# Altium footprint library SMD Voltage Reference and Regulators.PcbLib: 15 footprints
Each footprint in its own frame and in the unit in brackets; x right, y up, seen from the top. Pads: shape width x height; smd on the part's side, far side on the other; paste and mask are expansions set on the pad; w line width, h text height; cw(c..) or ccw(c..) is an arc to the next point about the centre after c.
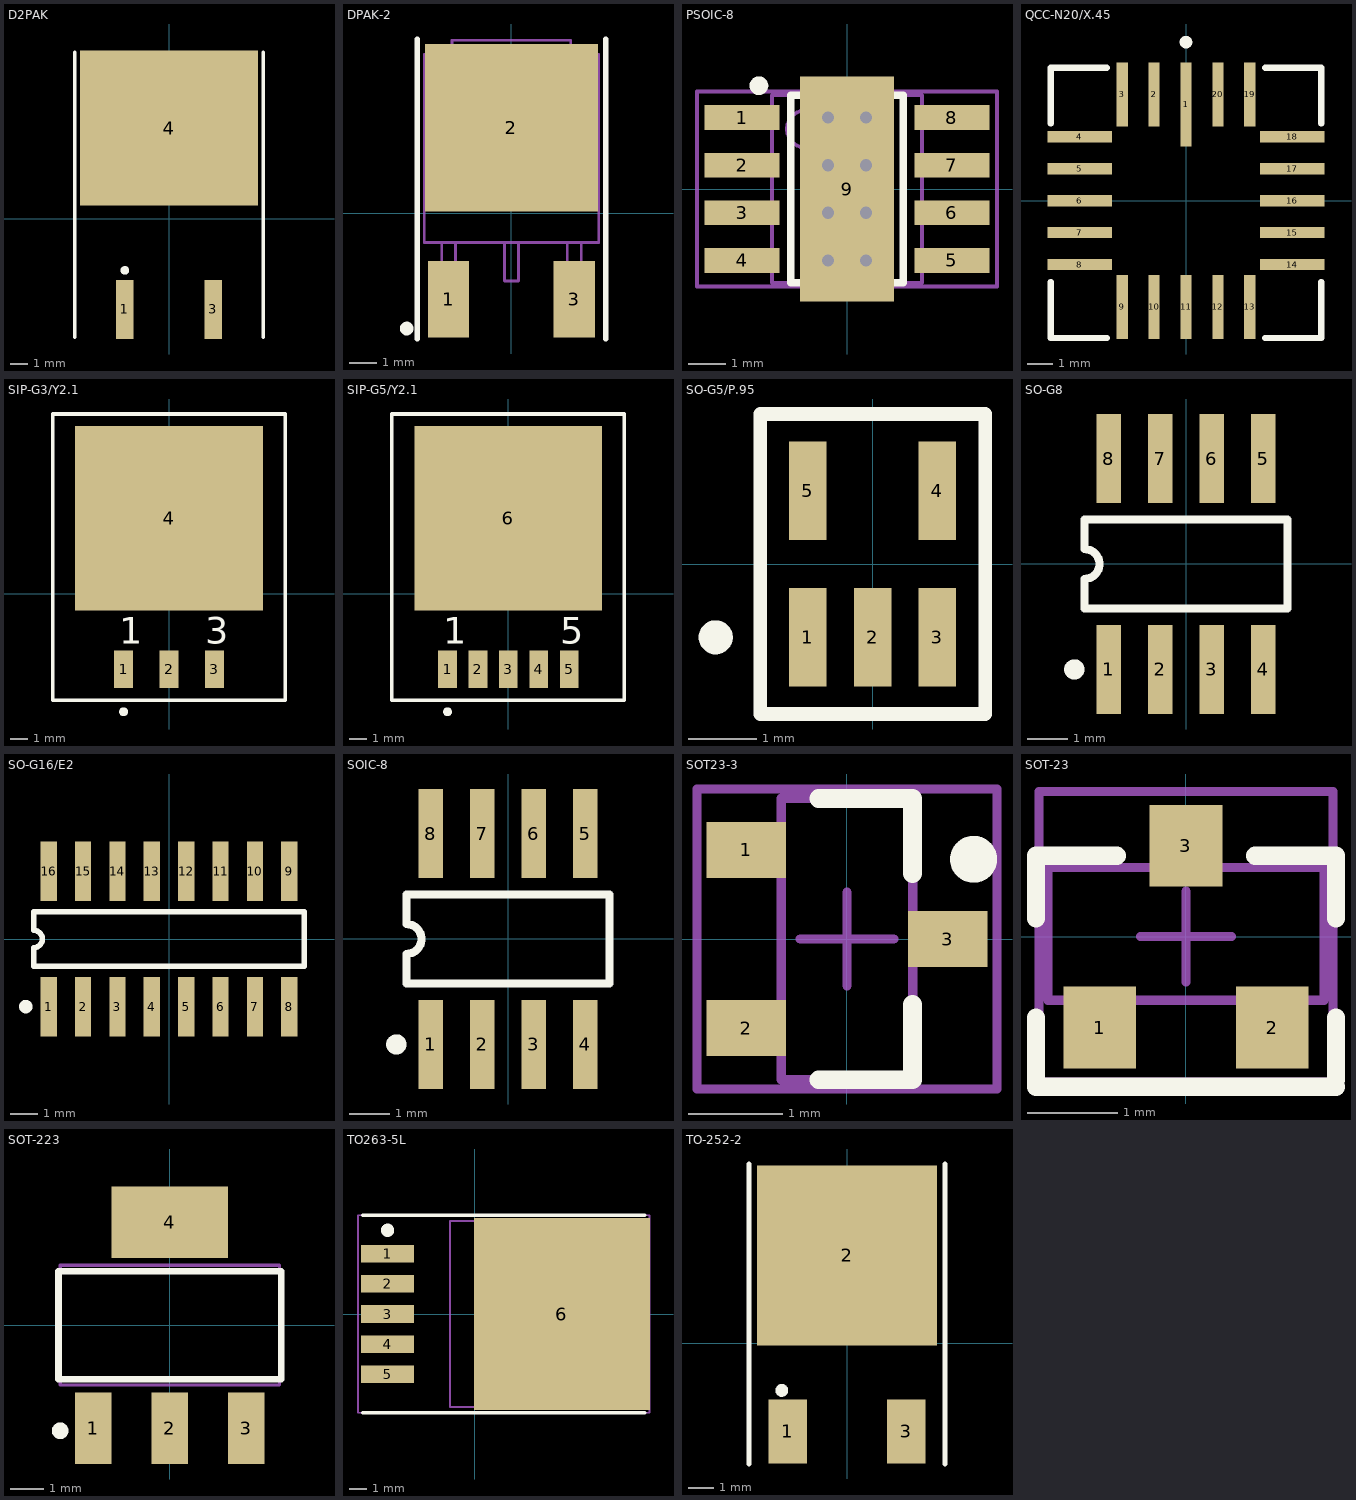
[diagram p0: the footprints below, top view; thin cyan lines are the x and y axes]

## D2PAK [mm] "D2-PAK/TO-263-AB; 3 Leads (1 Cropped); Body 15.9 (inc. leads) x 10.4 mm (LxW max)"
height 4.6
pads (3):
  rect 1x3.4 smd: 1(-2.54,-5.225) 3(2.54,-5.225)
  rect 10.25x8.9 smd: 4(0,5.225)
Top Overlay:
  circle w0.25: c-2.54,-2.975 r0.125
  lines w0.2: -5.425,-6.825 -5.425,9.575 ; 5.425,-6.825 5.425,9.575
3D body: height 0.92, standoff -1.03, extent -6.858,4.445 -6.858,4.445
3D body "D2PAK.step": height 4.92, standoff -0.09, extent -5.08,-6.368 5.08,8.896

## DPAK-2 [mm] "DPAK 3 Leads (1 Cropped); Body 10.4 (inc. leads) x 6.7 mm (LxW max)"
height 2.38
pads (3):
  rect 1.5x2.8 smd: 1(-2.286,-3.125) 3(2.286,-3.125)
  rect 6.3x6.1 smd: 2(0,3.125)
Top Overlay:
  circle w0.25: c-3.81,-4.191 r0.125
  lines w0.2: -3.429,-4.572 -3.429,6.35 ; 3.429,-4.572 3.429,6.35
Mechanical 13:
  lines w0.1: -2.54,-1.062 -2.54,-3.856 -2.032,-3.856 -2.032,-1.062 ; -2.159,5.796 -2.159,6.304 2.159,6.304 2.159,5.796 ; -0.254,-1.062 -0.254,-2.459 0.254,-2.459 0.254,-1.062 ; 2.032,-1.062 2.032,-3.856 2.54,-3.856 2.54,-1.062 ; -3.175,-1.062 -3.175,5.796 3.175,5.796 3.175,-1.062 -3.175,-1.062
3D body "D-PAK.step": height 2.3, standoff 0, extent -3.246,-3.853 3.247,5.647

## PSOIC-8 [mm] "SOIC, 8-Leads, Body 4.9x3.9mm, Pitch 1.27mm, IPC High Density"
height 1.75
pads (9):
  rect 2x0.66 smd: 1(-2.8,1.905) 2(-2.8,0.635) 3(-2.8,-0.635) 4(-2.8,-1.905) 5(2.8,-1.905) 6(2.8,-0.635) 7(2.8,0.635) 8(2.8,1.905)
  rect 2.5x6 smd: 9(0,0)
via 0.508,-1.905 diameter 0.5 hole 0.33
via 0.508,1.905 diameter 0.5 hole 0.33
via -0.508,1.905 diameter 0.5 hole 0.33
via -0.508,-1.905 diameter 0.5 hole 0.33
via -0.508,-0.635 diameter 0.5 hole 0.33
via -0.508,0.635 diameter 0.5 hole 0.33
via 0.508,0.635 diameter 0.5 hole 0.33
via 0.508,-0.635 diameter 0.5 hole 0.33
Top Overlay:
  circle w0.25: c-2.35,2.755 r0.125
  lines w0.2: -1.5,-2.5 1.5,-2.5 1.5,2.5 -1.5,2.5 -1.5,-2.5
Mechanical 13:
  circle w0.1: c-1.1,1.6 r0.5
  lines w0.1: -2,-2.5 2,-2.5 2,2.5 -2,2.5 -2,-2.5
Mechanical 15:
  lines w0.1: -0.5,0 0.5,0 ; 0,-0.5 0,0.5 ; -4,-2.6 4,-2.6 4,2.6 -4,2.6 -4,-2.6
3D body "SO8 or SOIC8.STEP": height 1.7, standoff 0, extent -3,-2.45 3,2.45

## QCC-N20/X.45 [mm]
pads (20):
  rect 0.45x3.35 smd: 1(0,3.825)
  rect 0.45x2.55 smd: 2(-1.27,4.225) 3(-2.54,4.225) 9(-2.54,-4.225) 10(-1.27,-4.225) 11(0,-4.225) 12(1.27,-4.225) 13(2.54,-4.225) 19(2.54,4.225) 20(1.27,4.225)
  rect 2.55x0.45 smd: 4(-4.225,2.54) 5(-4.225,1.27) 6(-4.225,0) 7(-4.225,-1.27) 8(-4.225,-2.54) 14(4.225,-2.54) 15(4.225,-1.27) 16(4.225,0) 17(4.225,1.27) 18(4.225,2.54)
Top Overlay:
  circle w0.25: c0,6.3 r0.125
  lines w0.25: -5.375,-3.237 -5.375,-5.463 -3.15,-5.463 ; -5.375,3.062 -5.375,5.288 -3.15,5.288 ; 3.15,-5.463 5.375,-5.463 5.375,-3.237 ; 3.15,5.288 5.375,5.288 5.375,3.062
3D body "CLCC-20 National QCC-N20 X.45.STEP": height 2.11, standoff 0, extent -4.545,-4.545 4.545,4.545

## SIP-G3/Y2.1 [mm]
pads (4):
  rect 1.05x2.1 smd: 1(-2.54,-4.225) 2(0,-4.225) 3(2.54,-4.225)
  rect 10.5x10.3 smd: 4(0,4.225)
Top Overlay:
  circle w0.25: c-2.54,-6.6 r0.125
  lines w0.2: -6.5,-5.95 6.5,-5.95 6.5,10.05 -6.5,10.05 -6.5,-5.95
  text "3" at 2.04,-2.8 h1.5
  text "1" at -2.79,-2.8 h1.5
3D body "TS3B.step": height 4.8, standoff -0.05, extent -5.207,-4 5.207,8.131

## SIP-G5/Y2.1 [mm]
pads (6):
  rect 1.05x2.1 smd: 1(-3.4,-4.225) 2(-1.7,-4.225) 3(0,-4.225) 4(1.7,-4.225) 5(3.4,-4.225)
  rect 10.5x10.3 smd: 6(-0.01,4.225)
Top Overlay:
  circle w0.25: c-3.4,-6.6 r0.125
  lines w0.2: -6.52,-5.95 6.48,-5.95 6.48,10.05 -6.52,10.05 -6.52,-5.95
  text "1" at -3.65,-2.8 h1.5
  text "5" at 2.9,-2.8 h1.5
3D body "TS5B.step": height 4.8, standoff -0.05, extent -5.207,-4.508 5.207,7.623

## SO-G5/P.95 [mm]
pads (5):
  rect 0.55x1.45 smd: 1(-0.95,-1.075) 2(0,-1.075) 3(0.95,-1.075) 4(0.95,1.075) 5(-0.95,1.075)
Top Overlay:
  circle w0.25: c-2.3,-1.075 r0.125
  lines w0.2: -1.65,-2.2 1.65,-2.2 1.65,2.2 -1.65,2.2 -1.65,-2.2
3D body "SOT-23-5.STEP": height 1.5, standoff 0, extent -1.45,-1.41 1.45,1.411

## SO-G8 [mm]
pads (8):
  rect 0.6x2.2 smd: 1(-1.905,-2.6) 2(-0.635,-2.6) 3(0.635,-2.6) 4(1.905,-2.6) 5(1.905,2.6) 6(0.635,2.6) 7(-0.635,2.6) 8(-1.905,2.6)
Top Overlay:
  circle w0.25: c-2.755,-2.6 r0.125
  lines w0.2: -2.5,-1.1 -2.5,-0.367 ccw(c-2.5,0) -2.5,0.367 -2.5,1.1 2.5,1.1 2.5,-1.1 -2.5,-1.1
3D body "SO-8.STEP": height 1.5, standoff 0, extent -2.45,-3.014 2.45,3.014
3D body "SO8 or SOIC8.STEP": height 1.7, standoff 0, extent -2.45,-3 2.45,3

## SO-G16/E2 [mm]
pads (16):
  rect 0.6x2.2 smd: 1(-4.445,-2.5) 2(-3.175,-2.5) 3(-1.905,-2.5) 4(-0.635,-2.5) 5(0.635,-2.5) 6(1.905,-2.5) 7(3.175,-2.5) 8(4.445,-2.5) 9(4.445,2.5) 10(3.175,2.5) 11(1.905,2.5) 12(0.635,2.5) 13(-0.635,2.5) 14(-1.905,2.5) 15(-3.175,2.5) 16(-4.445,2.5)
Top Overlay:
  circle w0.25: c-5.295,-2.5 r0.125
  lines w0.2: -5,-1 -5,-0.318 ccw(c-5,0) -5,0.318 -5,1 5,1 5,-1 -5,-1
3D body "SO16.step": height 1.7, standoff 0, extent -5.1,-3 5.1,3

## SOIC-8 [mm]
pads (8):
  rect 0.6x2.2 smd: 1(-1.905,-2.6) 2(-0.635,-2.6) 3(0.635,-2.6) 4(1.905,-2.6) 5(1.905,2.6) 6(0.635,2.6) 7(-0.635,2.6) 8(-1.905,2.6)
Top Overlay:
  circle w0.25: c-2.755,-2.6 r0.125
  lines w0.2: -2.5,-1.1 -2.5,-0.367 ccw(c-2.5,0) -2.5,0.367 -2.5,1.1 2.5,1.1 2.5,-1.1 -2.5,-1.1
3D body "SO-8.STEP": height 1.5, standoff 0, extent -2.45,-3.014 2.45,3.014
3D body "SO8 or SOIC8.STEP": height 1.7, standoff 0, extent -2.45,-3 2.45,3

## SOT23-3 [mm] "SOT23, 3-Leads, Body 2.9x1.3mm, Pitch 0.95mm, Lead Span 2.3mm - Reverse Pinning, IPC High Density"
height 1.1
pads (3):
  rect 0.85x0.6 smd: 1(-1.075,0.95) 2(-1.075,-0.95) 3(1.075,0)
Top Overlay:
  circle w0.25: c1.35,0.85 r0.125
  lines w0.2: -0.3,-1.5 0.7,-1.5 0.7,-0.7 ; -0.3,1.5 0.7,1.5 0.7,0.7
Mechanical 13:
  lines w0.1: -0.7,-1.5 -0.7,1.5 0.7,1.5 0.7,-1.5 -0.7,-1.5
Mechanical 15:
  lines w0.1: -0.5,0 0.5,0 ; 0,-0.5 0,0.5 ; -1.6,-1.6 -1.6,1.6 1.6,1.6 1.6,-1.6 -1.6,-1.6
3D body "SOT23-3.STEP": height 1.3, standoff 0, extent -1.4,-1.45 1.4,1.45

## SOT-23 [mm] "SOT23, 3-Leads, Body 3,0x2,6mm (max), Pitch 0,95mm, IPC High Density"
height 1.12
pads (3):
  rect 0.8x0.9 smd: 1(-0.95,-1) 2(0.95,-1) 3(0,1)
Top Overlay:
  lines w0.2: -1.651,-1.651 -1.651,-0.889 ; -1.651,0.203 -1.651,0.889 ; 1.651,-1.575 1.651,-0.889
  lines w0.203: -1.651,-1.651 1.651,-1.651 ; -1.651,0.889 -0.762,0.889 ; 0.762,0.889 1.651,0.889 1.651,0.203
Mechanical 13:
  lines w0.1: -1.52,0.7 -1.52,-0.7 1.52,-0.7 1.52,0.7
  lines w0.102: -1.524,0.762 1.524,0.762
Mechanical 15:
  lines w0.1: -0.5,0 0.5,0 ; 0,-0.5 0,0.5 ; -1.62,-1.6 1.62,-1.6 1.62,1.6 -1.62,1.6 -1.62,-1.6
3D body "sot-23-3-nxp.STEP": height 1.42, standoff -0.08, extent -1.43,-1.16 1.47,1.16

## SOT-223 [mm] "SOT-223/SC-73; 4 Leads; Body 6.7 x 7.3 mm, inc. leads (LxW max)"
height 1.8
pads (4):
  rect 1.1x2.15 smd: 1(-2.3,-3.1) 2(0,-3.1) 3(2.3,-3.1)
  rect 3.5x2.15 smd: 4(0,3.1)
Top Overlay:
  circle w0.25: c-3.3,-3.175 r0.125
  lines w0.2: -3.35,-1.625 -3.35,1.625 3.35,1.625 3.35,-1.625 -3.35,-1.625
Mechanical 13:
  lines w0.1: -3.3,-1.8 3.3,-1.8 3.3,1.8 -3.3,1.8 -3.3,-1.8
3D body "SOT-223.STEP": height 1.75, standoff -0.05, extent -3.25,-3.516 3.25,3.5
3D body "SOT-223.STEP": height 1.72, standoff -0.08, extent -3.25,-3.381 3.25,3.635

## TO263-5L [mm] "D2-PAK, 6-Pads, Body 9,6x10,5mm (max), IPC High Density"
height 4.85
pads (6):
  rect 3x1 smd: 1(-4.95,3.42) 2(-4.95,1.71) 3(-4.95,0) 4(-4.95,-1.71) 5(-4.95,-3.42)
  rect 10x10.9 smd: 6(4.95,0)
Top Overlay:
  circle w0.5: c-4.95,4.75 r0.125
  lines w0.2: -6.35,-5.6 9.65,-5.6 ; -6.35,5.6 9.65,5.6
Mechanical 13:
  lines w0.1: -1.4,-5.275 -1.4,5.275 8.25,5.275 8.25,-5.275 -1.4,-5.275
Mechanical 15:
  lines w0.1: 1.15,0 2.15,0 ; 1.65,-0.5 1.65,0.5 ; -6.625,-5.6 -6.625,5.6 9.925,5.6 9.925,-5.6 -6.625,-5.6
3D body "TO-263-5 Long Leads.STEP": height 4.56, standoff 0, extent -5.252,-5.08 8.762,5.08
3D body "TO-263-5 Long Leads.STEP": height 4.56, standoff 0, extent -5.125,-5.08 8.889,5.08

## TO-252-2 [mil] "TO-252-2 DPAK"
height 181.1
pads (3):
  rect 59x98 smd: 1(-91,-135) 3(91,-135)
  rect 276x276 smd: 2(0,135)
Top Overlay:
  circle w9.84: c-100,-72.13 r4.92
  lines w7.87: -150,-185 -150,275 ; 150,-185 150,275
3D body "User Library-DPAK_TO-252AA.step": height 93.31, standoff -1.18, extent -132.56,-140 132.56,257.64
3D body: height 36.42, standoff -40.55, extent -270,220 -270,220